# Altium schematic symbol library SCH - FET - NMOS.SCHLIB: 1 symbol
Pins are listed as number, name and electrical type; pins without a type are passive.

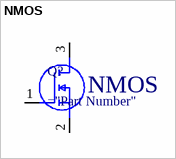
[diagram p0: symbol NMOS]

## NMOS
designator Q?
PMOS
pins: 1 G, 2 S, 3 D